# EAGLE library part YJ-14015 (library YJ-14015)
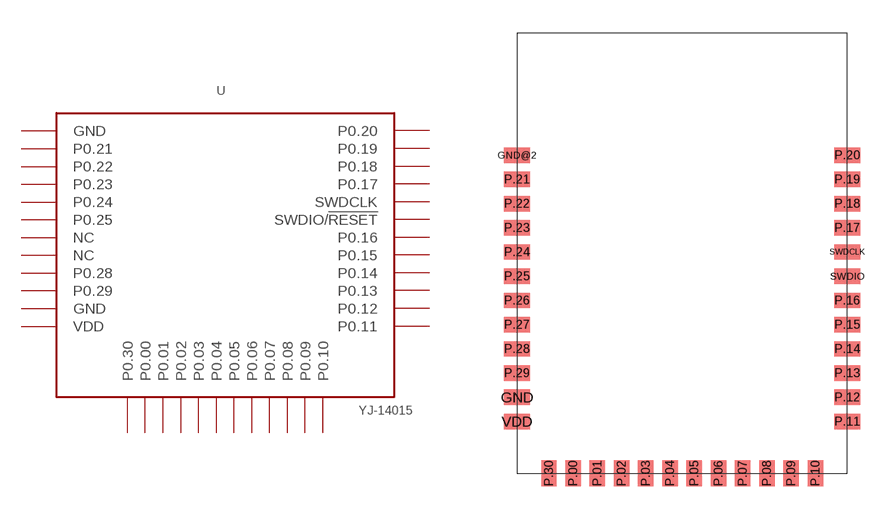
[diagram p0: symbol with the pads of YJ-14015; footprint YJ-14015]

Designator prefix U

## YJ-14015  [YJ-14015]
GND  GND  pas
GND@2  GND  pas
P.00  P0.00
P.01  P0.01
P.02  P0.02
P.03  P0.03
P.04  P0.04
P.05  P0.05
P.06  P0.06
P.07  P0.07
P.08  P0.08
P.09  P0.09
P.10  P0.10
P.11  P0.11
P.12  P0.12
P.13  P0.13
P.14  P0.14
P.15  P0.15
P.16  P0.16
P.17  P0.17
P.18  P0.18
P.19  P0.19
P.20  P0.20
P.21  P0.21
P.22  P0.22
P.23  P0.23
P.24  P0.24
P.25  P0.25
P.26  NC  nc
P.27  NC  nc
P.28  P0.28
P.29  P0.29
P.30  P0.30
SWDCLK  SWDCLK  in
SWDIO  SWDIO/!RESET
VDD  VDD  pas

## Footprint YJ-14015 (pad centres in mm)
smd 1.2 x 0.7: GND -7.5,3.45; GND@2 -7.5,14.45; P.11 7.5,2.35; P.12 7.5,3.45; P.13 7.5,4.55; P.14 7.5,5.65; P.15 7.5,6.75; P.16 7.5,7.85; P.17 7.5,11.15; P.18 7.5,12.25; P.19 7.5,13.35; P.20 7.5,14.45; P.21 -7.5,13.35; P.22 -7.5,12.25; P.23 -7.5,11.15; P.24 -7.5,10.05; P.25 -7.5,8.95; P.26 -7.5,7.85; P.27 -7.5,6.75; P.28 -7.5,5.65; P.29 -7.5,4.55; SWDCLK 7.5,10.05; SWDIO 7.5,8.95; VDD -7.5,2.35
smd 0.7 x 1.2: P.00 -4.95,0; P.01 -3.85,0; P.02 -2.75,0; P.03 -1.65,0; P.04 -0.55,0; P.05 0.55,0; P.06 1.65,0; P.07 2.75,0; P.08 3.85,0; P.09 4.95,0; P.10 6.05,0; P.30 -6.05,0